# Altium footprint library Test_PCB.PcbLib: 28 footprints (part 2 of 2)
Each footprint in its own frame and in the unit in brackets; x right, y up, seen from the top. Pads: shape width x height; smd on the part's side, far side on the other; paste and mask are expansions set on the pad; w line width, h text height; cw(c..) or ccw(c..) is an arc to the next point about the centre after c.
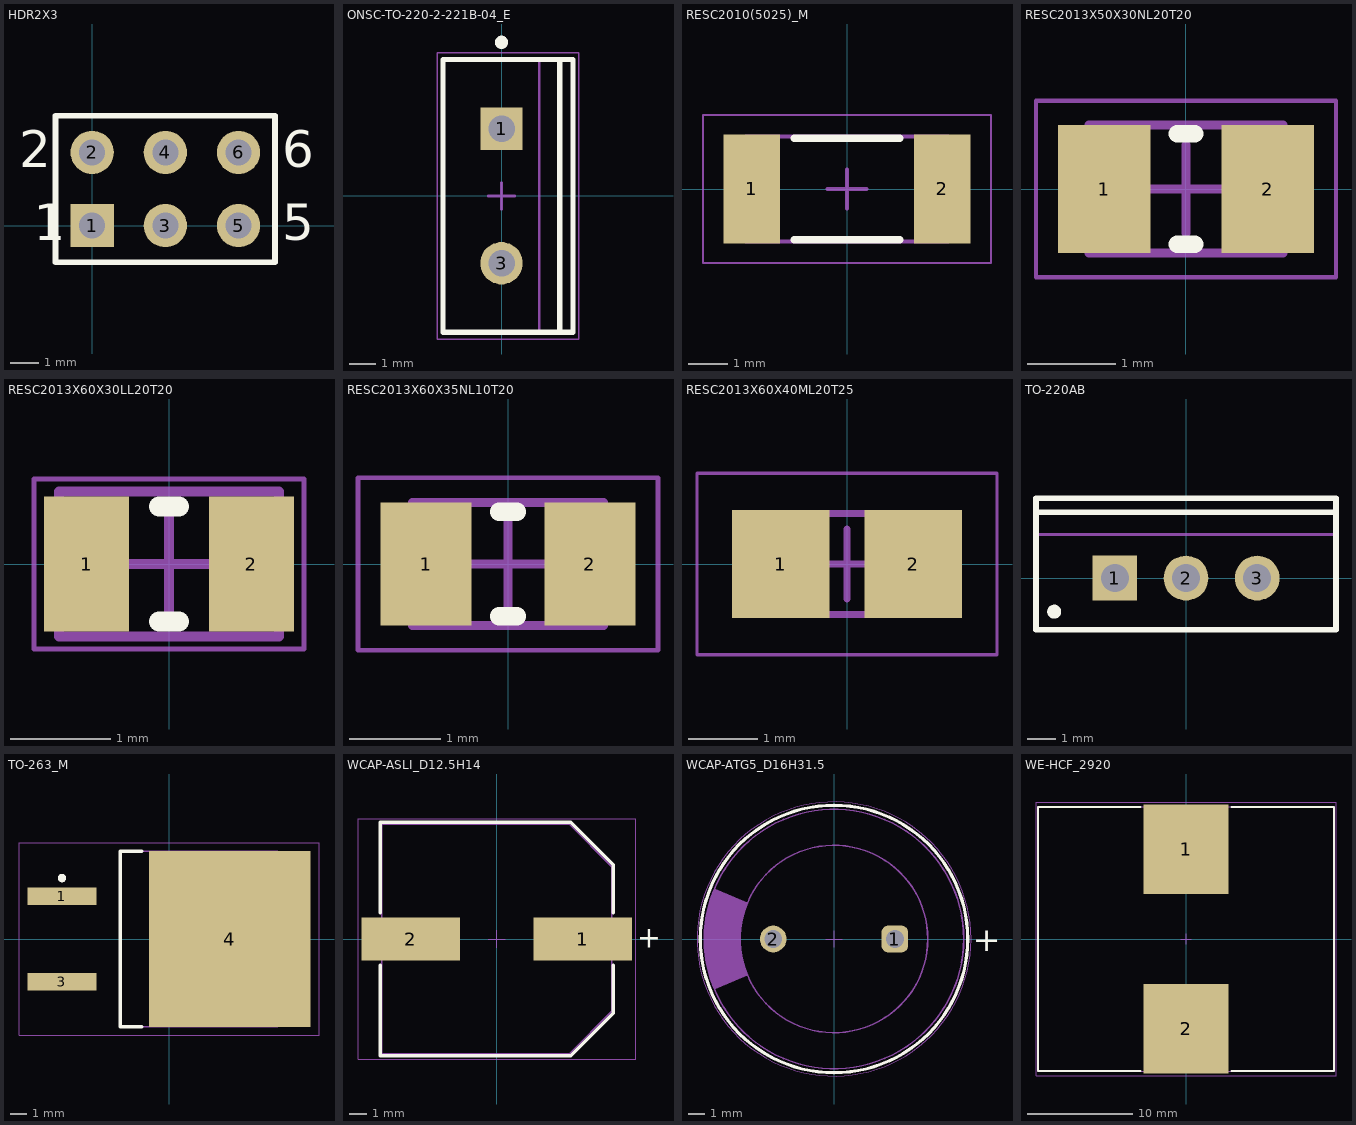
[diagram p1: the footprints below, top view; thin cyan lines are the x and y axes]

## HDR2X3 [mm]
pads (6):
  rect 1.5x1.5 hole 0.9: 1(0,0)
  round 1.5 hole 0.9: 2(0,2.54) 3(2.54,0) 4(2.54,2.54) 5(5.08,0) 6(5.08,2.54)
Top Overlay:
  lines w0.2: 1.482,-1.27 6.35,-1.27 ; 6.35,-1.27 6.35,3.81 -1.27,3.81 -1.27,-1.27 6.35,-1.27
  text "6" at 6.604,2.032 h1.27
  text "5" at 6.604,-0.508 h1.27
  text "2" at -2.54,2.032 h1.27
  text "1" at -2.032,-0.508 h1.27

## ONSC-TO-220-2-221B-04_E [mm]
pads (2):
  rect 1.6x1.6 hole 1: 1(0,2.54)
  round 1.6 hole 1: 3(0,-2.54)
Top Overlay:
  circle w0.25: c0,5.8 r0.125
  lines w0.2: 2.195,-5.15 2.195,5.15 ; -2.205,-5.15 2.695,-5.15 2.695,5.15 -2.205,5.15 -2.205,-5.15
Mechanical 13:
  lines w0.1: 1.42,-5.15 1.42,5.15 ; -2.18,-5.15 -2.18,5.15 2.67,5.15 2.67,-5.15 -2.18,-5.15
Mechanical 15:
  lines w0.05: -2.43,-5.4 -2.43,5.4 2.92,5.4 2.92,-5.4 -2.43,-5.4
  lines w0.1: -0.5,0 0.5,0 ; 0,-0.5 0,0.5
3D body: height 2.79, standoff 0, extent -0.25,1.875 0.25,3.205
3D body: height 0, standoff -1.6, extent -0.25,2.155 0.25,2.925
3D body: height 2.79, standoff 0, extent -0.25,-3.205 0.25,-1.875
3D body: height 0, standoff -1.6, extent -0.25,-2.925 0.25,-2.155
3D body: height 12.8, standoff 2.79, extent -2.18,-5.15 2.67,5.15
3D body: height 14.33, standoff 12.8, extent 1.42,-4.975 2.67,4.975
3D body: height 14.37, standoff 14.33, extent 1.42,0.376 2.67,4.975
3D body: height 14.37, standoff 14.33, extent 1.42,-4.975 2.67,-0.376
3D body: height 18.18, standoff 18.14, extent 1.42,0.376 2.67,4.975
3D body: height 18.18, standoff 18.14, extent 1.42,-4.975 2.67,-0.376
3D body: height 14.48, standoff 14.36, extent 1.42,0.737 2.67,4.975
3D body: height 14.48, standoff 14.36, extent 1.42,-4.975 2.67,-0.737
3D body: height 18.14, standoff 18.03, extent 1.42,0.737 2.67,4.975
3D body: height 18.14, standoff 18.03, extent 1.42,-4.975 2.67,-0.737
3D body: height 14.65, standoff 14.47, extent 1.42,1.069 2.67,4.975
3D body: height 14.65, standoff 14.47, extent 1.42,-4.975 2.67,-1.069
3D body: height 18.03, standoff 17.85, extent 1.42,1.069 2.67,4.975
3D body: height 18.03, standoff 17.85, extent 1.42,-4.975 2.67,-1.069
3D body: height 14.89, standoff 14.65, extent 1.42,1.361 2.67,4.975
3D body: height 14.89, standoff 14.65, extent 1.42,-4.975 2.67,-1.361
3D body: height 17.86, standoff 17.61, extent 1.42,1.361 2.67,4.975
3D body: height 17.86, standoff 17.61, extent 1.42,-4.975 2.67,-1.361
3D body: height 15.19, standoff 14.89, extent 1.42,1.601 2.67,4.975
3D body: height 15.19, standoff 14.89, extent 1.42,-4.975 2.67,-1.601
3D body: height 17.62, standoff 17.32, extent 1.42,1.601 2.67,4.975
3D body: height 17.62, standoff 17.32, extent 1.42,-4.975 2.67,-1.601
3D body: height 15.52, standoff 15.18, extent 1.42,1.778 2.67,4.975
3D body: height 15.52, standoff 15.18, extent 1.42,-4.975 2.67,-1.778
3D body: height 17.32, standoff 16.99, extent 1.42,1.778 2.67,4.975
3D body: height 17.32, standoff 16.99, extent 1.42,-4.975 2.67,-1.778
3D body: height 15.88, standoff 15.51, extent 1.42,1.888 2.67,4.975
3D body: height 15.88, standoff 15.51, extent 1.42,-4.975 2.67,-1.888
3D body: height 16.99, standoff 16.63, extent 1.42,1.888 2.67,4.975
3D body: height 16.99, standoff 16.63, extent 1.42,-4.975 2.67,-1.888
3D body: height 16.25, standoff 15.87, extent 1.42,1.925 2.67,4.975
3D body: height 16.25, standoff 15.87, extent 1.42,-4.975 2.67,-1.925
3D body: height 16.63, standoff 16.25, extent 1.42,1.925 2.67,4.975
3D body: height 16.63, standoff 16.25, extent 1.42,-4.975 2.67,-1.925
3D body: height 19.05, standoff 18.18, extent 1.42,-4.975 2.67,4.975

## RESC2010(5025)_M [mm]
pads (2):
  rect 1.45x2.8 smd: 1(-2.45,0) 2(2.45,0)
Top Overlay:
  lines w0.2: -1.35,-1.3 1.35,-1.3 ; -1.35,1.3 1.35,1.3
Mechanical 13:
  lines w0.1: -2.6,-1.35 -2.6,1.35 2.6,1.35 2.6,-1.35 -2.6,-1.35
Mechanical 15:
  lines w0.05: -3.7,-1.9 -3.7,1.9 3.7,1.9 3.7,-1.9 -3.7,-1.9
  lines w0.1: -0.5,0 0.5,0 ; 0,-0.5 0,0.5
3D body: height 0.71, standoff 0, extent -2.6,-1.35 -1.98,1.35
3D body: height 0.71, standoff 0, extent -1.98,-1.35 1.98,1.35
3D body: height 0.71, standoff 0, extent 1.98,-1.35 2.6,1.35

## RESC2013X50X30NL20T20 [mm]
pads (2):
  rect 1.05x1.45 smd: 1(-0.925,0) 2(0.925,0)
Top Overlay:
  lines w0.2: -0.1,-0.625 0.1,-0.625 ; -0.1,0.625 0.1,0.625
Mechanical 13:
  lines w0.1: -1.1,-0.725 -1.1,0.725 1.1,0.725 1.1,-0.725 -1.1,-0.725
Mechanical 15:
  lines w0.05: -1.7,-1 -1.7,1 1.7,1 1.7,-1 -1.7,-1
  lines w0.1: -0.5,0 0.5,0 ; 0,-0.5 0,0.5
3D body: height 0.5, standoff 0, extent -0.8,-0.725 0.8,0.725
3D body: height 0.5, standoff 0, extent -1.1,-0.725 -0.8,0.725
3D body: height 0.5, standoff 0, extent 0.8,-0.725 1.1,0.725

## RESC2013X60X30LL20T20 [mm]
pads (2):
  rect 0.85x1.35 smd: 1(-0.825,0) 2(0.825,0)
Top Overlay:
  lines w0.2: -0.1,-0.575 0.1,-0.575 ; -0.1,0.575 0.1,0.575
Mechanical 13:
  lines w0.1: -1.1,-0.725 -1.1,0.725 1.1,0.725 1.1,-0.725 -1.1,-0.725
Mechanical 15:
  lines w0.05: -1.35,-0.85 -1.35,0.85 1.35,0.85 1.35,-0.85 -1.35,-0.85
  lines w0.1: -0.5,0 0.5,0 ; 0,-0.5 0,0.5
3D body: height 0.6, standoff 0, extent -0.8,-0.725 0.8,0.725
3D body: height 0.6, standoff 0, extent -1.1,-0.725 -0.8,0.725
3D body: height 0.6, standoff 0, extent 0.8,-0.725 1.1,0.725

## RESC2013X60X35NL10T20 [mm]
pads (2):
  rect 1x1.35 smd: 1(-0.9,0) 2(0.9,0)
Top Overlay:
  lines w0.2: -0.1,-0.575 0.1,-0.575 ; -0.1,0.575 0.1,0.575
Mechanical 13:
  lines w0.1: -1.05,-0.675 -1.05,0.675 1.05,0.675 1.05,-0.675 -1.05,-0.675
Mechanical 15:
  lines w0.05: -1.65,-0.95 -1.65,0.95 1.65,0.95 1.65,-0.95 -1.65,-0.95
  lines w0.1: -0.5,0 0.5,0 ; 0,-0.5 0,0.5
3D body "RESC2012X06N.step": height 0.6, standoff 0, extent -1.05,-0.675 1.05,0.675

## RESC2013X60X40ML20T25 [mm]
pads (2):
  rect 1.4x1.55 smd: 1(-0.95,0) 2(0.95,0)
Mechanical 13:
  lines w0.1: -1.1,-0.725 -1.1,0.725 1.1,0.725 1.1,-0.725 -1.1,-0.725
Mechanical 15:
  lines w0.05: -2.15,-1.3 -2.15,1.3 2.15,1.3 2.15,-1.3 -2.15,-1.3
  lines w0.1: -0.5,0 0.5,0 ; 0,-0.5 0,0.5
3D body: height 0.6, standoff 0, extent -0.7,-0.725 0.7,0.725
3D body: height 0.6, standoff 0, extent -1.1,-0.725 -0.7,0.725
3D body: height 0.6, standoff 0, extent 0.7,-0.725 1.1,0.725

## TO-220AB [mm]
pads (3):
  rect 1.6x1.6 hole 1: 1(-2.54,0)
  round 1.6 hole 1: 2(0,0) 3(2.54,0)
Top Overlay:
  circle w0.25: c-4.7,-1.2 r0.125
  lines w0.2: -5.35,2.35 5.35,2.35 ; -5.35,-1.85 -5.35,2.85 5.35,2.85 5.35,-1.85 -5.35,-1.85
Mechanical 13:
  lines w0.1: -5.35,1.55 5.35,1.55 ; -5.35,-1.85 5.35,-1.85 5.35,2.85 -5.35,2.85 -5.35,-1.85
Mechanical 15:
  lines w0.1: -0.5,0 0.5,0 ; 0,-0.5 0,0.5
3D body: height 12.9, standoff 4, extent -5.4,-1.9 5.4,2.9
3D body: height 19.3, standoff 12.9, extent -5.349,1.551 5.349,2.849

## TO-263_M [mm]
pads (3):
  rect 4.1x1.05 smd: 1(-6.35,2.54) 3(-6.35,-2.54)
  rect 9.6x10.45 smd: 4(3.6,0)
Top Overlay:
  circle w0.25: c-6.35,3.615 r0.125
  lines w0.2: -1.6,-5.2 -2.9,-5.2 -2.9,5.2 -1.6,5.2
Mechanical 13:
  lines w0.1: -2.9,-5.2 -2.9,5.2 6.45,5.2 6.45,-5.2 -2.9,-5.2
Mechanical 15:
  lines w0.05: -8.9,-5.725 -8.9,5.725 8.9,5.725 8.9,-5.725 -8.9,-5.725
  lines w0.1: -0.5,0 0.5,0 ; 0,-0.5 0,0.5
3D body: height 4.6, standoff 0, extent -2.9,-5.2 6.45,5.2

## WCAP-ASLI_D12.5H14 [mm]
pads (2):
  rect 5.8x2.5 smd: 1(5.05,0) 2(-5.05,0)
Top Overlay:
  lines w0.2: -6.85,-1.55 -6.85,-6.85 4.35,-6.85 6.85,-4.35 6.85,-1.55 ; -6.85,1.55 -6.85,6.85 4.35,6.85 6.85,4.35 6.85,1.55
  text "+" at 8.25,-0.5 h1.22
Mechanical 11:
  lines w0.1: -6.75,-6.75 -6.75,6.75 4.25,6.75 6.75,4.25 6.75,-4.25 4.25,-6.75 -6.75,-6.75
  text ".Designator" at -2.5,-0.75 h1.5
Mechanical 15:
  lines w0.05: -0.5,0 0.5,0 ; 0,-0.5 0,0.5 ; -8.15,-7.05 8.15,-7.05 8.15,7.05 -8.15,7.05 -8.15,-7.05
3D body "12.5x14x4.5.stp": height 14, standoff 0, extent -7.1,-6.725 7.1,6.725

## WCAP-ATG5_D16H31.5 [mm]
pads (2):
  rrect50% 1.65x1.65 hole 1.1: 1(3.75,0)
  round 1.65 hole 1.1: 2(-3.75,0)
Top Overlay:
  circle w0.2: c0,0 r8.25
  text "+" at 8.55,-0.75 h1.5
Mechanical 11:
  circle w0.1: c0,0 r8
  circle w0.1: c0,0 r5.78
  region: -7.369,-3.114 -5.324,-2.25 -5.325,-2.248 -5.431,-1.979 -5.601,-1.428 -5.715,-0.863 -5.773,-0.288 -5.773,0.288 -5.715,0.863 -5.601,1.428 -5.431,1.979 -5.325,2.248 -5.324,2.25 -7.369,3.114 -7.525,2.745 -7.761,1.98 -7.92,1.196 -8,0.4 -8,-0.4 -7.92,-1.196 -7.761,-1.981 -7.525,-2.745
  text ".Designator" at -2.5,-0.75 h1.5
Mechanical 15:
  circle w0.05: c0,0 r8.45
  lines w0.05: -0.5,0 0.5,0 ; 0,-0.5 0,0.5
3D body "16x31.5x7.5x0.8.stp": height 31.81, standoff -19.91, extent -7.99,-7.997 8,7.998

## WE-HCF_2920 [mm]
pads (2):
  rect 8x8.5 smd: 1(0,8.5) 2(0,-8.5)
Top Overlay:
  lines w0.2: -4.3,-12.5 -14,-12.5 -14,12.5 -4.3,12.5 ; 4.3,-12.5 14,-12.5 14,12.5 4.3,12.5
Mechanical 11:
  lines w0.1: -14,-12.5 -14,12.5 14,12.5 14,-12.5 -14,-12.5
  text ".Designator" at -2.5,-0.75 h1.5
Mechanical 13:
  lines w0.1: -14,-12.5 14,-12.5 14,12.5 -14,12.5 -14,-12.5
Mechanical 15:
  lines w0.05: -0.5,0 0.5,0 ; 0,-0.5 0,0.5
  lines w0.1: -14.2,-12.95 14.2,-12.95 14.2,12.95 -14.2,12.95 -14.2,-12.95
3D body "74437429203xxx.stp": height 20, standoff 0, extent -13.65,-11.548 13.65,11.548